# Altium footprint library ToolDoorController.PcbLib: 27 footprints (part 2 of 2)
Each footprint in its own frame and in the unit in brackets; x right, y up, seen from the top. Pads: shape width x height; smd on the part's side, far side on the other; paste and mask are expansions set on the pad; w line width, h text height; cw(c..) or ccw(c..) is an arc to the next point about the centre after c.
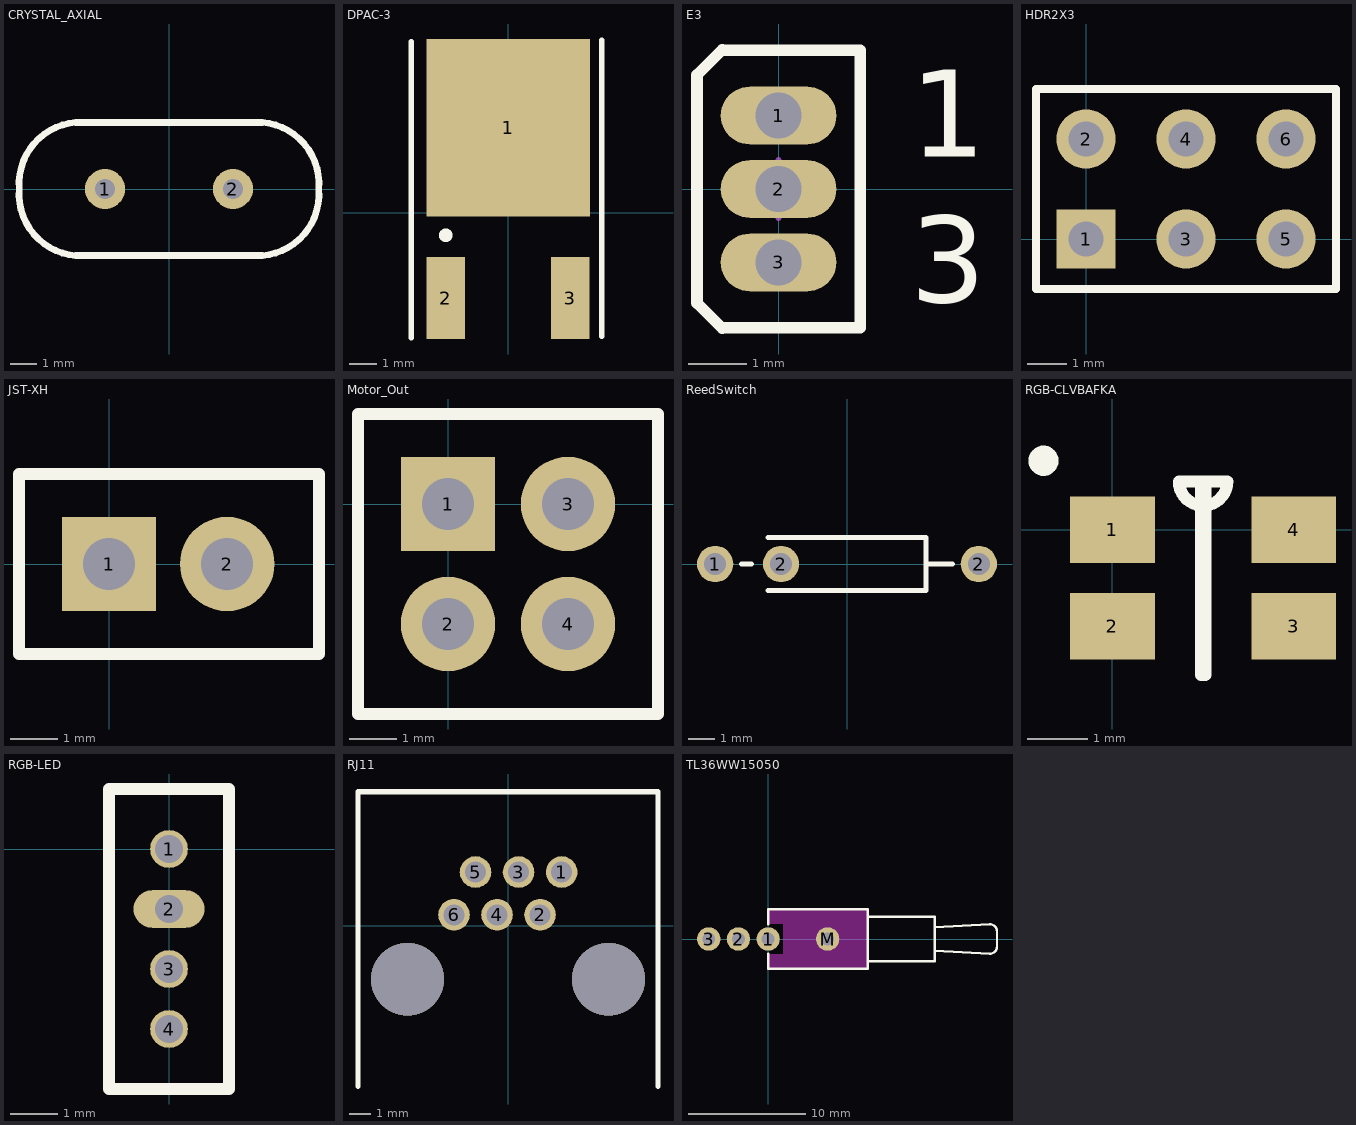
[diagram p1: the footprints below, top view; thin cyan lines are the x and y axes]

## CRYSTAL_AXIAL [mil] "Axial"
pads (2):
  round 60 hole 30: 1(-96.06,0) 2(96.06,0)
Top Overlay:
  lines w10: -225.06,0.73 cw(c-132.5,7.5) -140,100 140,100 cw(c132.5,7.5) 225,0 ; -225,0 ccw(c-132.5,-7.5) -140,-100 140,-100 ccw(c132.5,-7.5) 225.06,-0.73

## DPAC-3 [mm] "D-PAC"
height 2.38
pads (3):
  rect 6x6.5 smd: 1(0.015,3.125)
  rect 1.4x3 smd: 2(-2.285,-3.125) 3(2.285,-3.125)
Top Overlay:
  circle w0.25: c-2.284,-0.822 r0.125
  lines w0.2: -3.555,-4.577 -3.555,6.273 ; 3.43,-4.522 3.43,6.328

## E3 [mm] "TO, Flat Index; 3 In-Line, Axial Leads; Body Dia. 4.6mm; Lead Dia. 0.5 mm (max)"
height 4.01
pads (3):
  oval 2x1 hole 0.8: 1(0,1.27) 2(0,0) 3(0,-1.27)
Top Overlay:
  lines w0.2: -0.97,-2.41 -1.41,-1.97 -1.41,1.97 -0.97,2.41 ; -0.97,-2.4 1.41,-2.4 1.41,2.4 -0.97,2.4
  text "3" at 2.275,-1.963 h1.5
  text "1" at 2.275,0.555 h1.5
Mechanical 15:
  lines w0.1: -0.5,0 0.5,0 ; 0,-0.5 0,0.5

## HDR2X3 [mm] "Connector; Header; 3x2 Position"
pads (6):
  rect 1.5x1.5 hole 0.9: 1(0,0)
  round 1.5 hole 0.9: 2(0,2.54) 3(2.54,0) 4(2.54,2.54) 5(5.08,0) 6(5.08,2.54)
Top Overlay:
  lines w0.2: 1.482,-1.27 6.35,-1.27 ; 6.35,-1.27 6.35,3.81 -1.27,3.81 -1.27,-1.27 6.35,-1.27

## JST-XH [mm] "JST-XH"
pads (2):
  rect 2x2 hole 1.1: 1(0,0)
  round 2 hole 1.1: 2(2.5,0)
Top Overlay:
  lines w0.254: -1.905,-1.905 4.445,-1.905 4.445,1.905 -1.905,1.905 -1.905,-1.905

## Motor_Out [mm] "2.54mm"
pads (4):
  rect 2x2 hole 1.1: 1(0,0)
  round 2 hole 1.1: 2(0,-2.54) 3(2.54,0) 4(2.54,-2.54)
Top Overlay:
  lines w0.254: -1.905,-4.445 4.445,-4.445 4.445,1.905 -1.905,1.905 -1.905,-4.445

## ReedSwitch [mm] "Axial Device, Thru-Hole; 2 Leads; 0.4 in Pin Spacing"
height 2.032
pads (3):
  round 1.4 hole 0.85: 1(-5.08,0) 2(-2.54,0) 2(5.08,0)
Top Overlay:
  lines w0.2: -4.064,0 -3.683,0 ; -3.048,-1.016 3.048,-1.016 3.048,1.016 -3.048,1.016 ; 3.048,0 4.064,0

## RGB-CLVBAFKA [mm]
pads (4):
  rect 1.4x1.1 smd: 1(0,0) 2(0,-1.6) 3(3,-1.6) 4(3,0)
Top Overlay:
  circle w0.25: c-1.141,1.143 r0.125
  lines w0.2: 1.1,0.8 ccw(c1.5,0.8) 1.9,0.8 1.465,0.8 1.465,-2.4 1.535,-2.4 1.535,0.8 1.1,0.8

## RGB-LED [mm]
pads (4):
  round 0.8 hole 0.6: 1(0,0) 3(0,-2.54) 4(0,-3.81)
  oval 1.5x0.8 hole 0.6: 2(0,-1.27)
Top Overlay:
  lines w0.254: -1.27,-5.08 -1.27,0.635 -1.27,1.27 1.27,1.27 1.27,0.635 1.27,-5.08 -1.27,-5.08

## RJ11 [mm]
pads (6):
  round 1.5 hole 1: 1(2.54,2.54) 2(1.52,0.51) 3(0.5,2.54) 4(-0.52,0.51) 5(-1.54,2.54) 6(-2.56,0.51)
via 4.76,-2.54 diameter 3.45 hole 3.45
via -4.76,-2.54 diameter 3.45 hole 3.45
Top Overlay:
  lines w0.254: -7.112,-7.62 -7.112,6.35 7.112,6.35 7.112,-7.62

## TL36WW15050 [mm] "Switch; 4 Leads"
pads (4):
  round 2 hole 1.1: 1(0,0) 2(-2.54,0) 3(-5.08,0) M(5.08,0)
Top Layer keep-out:
  region: 1.27,2.54 1.27,-2.54 8.509,-2.54 8.509,2.54
  region: 0,2.54 0,1.27 1.27,1.27 1.27,2.54
  region: 0,-1.27 0,-2.54 1.27,-2.54 1.27,-1.27
Top Overlay:
  lines w0.2: 0,-1.27 0,-2.54 8.509,-2.54 8.509,2.54 0,2.54 0,1.27 ; 8.509,-1.905 14.224,-1.905 14.224,1.905 8.509,1.905 ; 14.224,-1.016 18.923,-1.27 ccw(c18.923,-0.635) 19.558,-0.635 19.558,0.635 ccw(c18.923,0.635) 18.923,1.27 14.224,1.016